# EAGLE library part XC2S200E (library Traficon)
Xilinx FPGA Spartan II XC2S200 PQFP 208 Created by Colin O'Flynn [coflynn@newae.com] This part has been used extensively in real life, and should be correct!
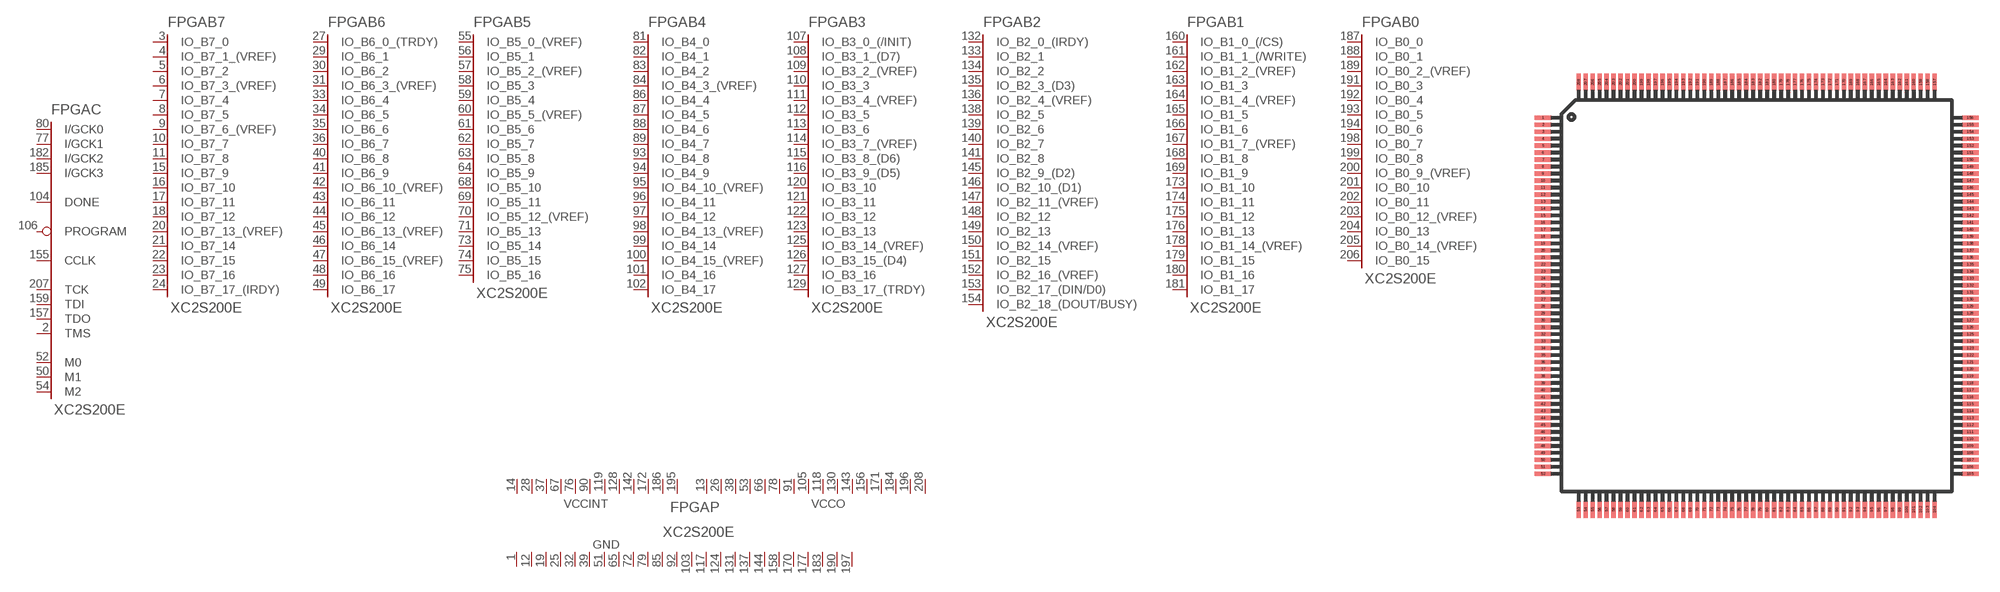
[diagram p144: symbol with the pads of PQFP208; footprint PQFP208]

Designator prefix FPGA; gates P=PWR_XC2S200 B7=XC2S_B7 B6=XC2S_B6 B4=XC2S_B4 B3=XC2S_B3 B2=XC2S_B2 B1=XC2S_B1 B0=XC2S_B0 B5=XC2S_B5 C=XC2S_C

## XC2S200E-PQ208  [PQFP208]
1  P:GND  pwr
2  C:TMS
3  B7:IO_B7_0
4  B7:IO_B7_1_(VREF)
5  B7:IO_B7_2
6  B7:IO_B7_3_(VREF)
7  B7:IO_B7_4
8  B7:IO_B7_5
9  B7:IO_B7_6_(VREF)
10  B7:IO_B7_7
11  B7:IO_B7_8
12  P:GND  pwr
13  P:VCCO  pwr
14  P:VCCINT  pwr
15  B7:IO_B7_9
16  B7:IO_B7_10
17  B7:IO_B7_11
18  B7:IO_B7_12
19  P:GND  pwr
20  B7:IO_B7_13_(VREF)
21  B7:IO_B7_14
22  B7:IO_B7_15
23  B7:IO_B7_16
24  B7:IO_B7_17_(IRDY)
25  P:GND  pwr
26  P:VCCO  pwr
27  B6:IO_B6_0_(TRDY)
28  P:VCCINT  pwr
29  B6:IO_B6_1
30  B6:IO_B6_2
31  B6:IO_B6_3_(VREF)
32  P:GND  pwr
33  B6:IO_B6_4
34  B6:IO_B6_5
35  B6:IO_B6_6
36  B6:IO_B6_7
37  P:VCCINT  pwr
38  P:VCCO  pwr
39  P:GND  pwr
40  B6:IO_B6_8
41  B6:IO_B6_9
42  B6:IO_B6_10_(VREF)
43  B6:IO_B6_11
44  B6:IO_B6_12
45  B6:IO_B6_13_(VREF)
46  B6:IO_B6_14
47  B6:IO_B6_15_(VREF)
48  B6:IO_B6_16
49  B6:IO_B6_17
50  C:M1  in
51  P:GND  pwr
52  C:M0  in
53  P:VCCO  pwr
54  C:M2  in
55  B5:IO_B5_0_(VREF)
56  B5:IO_B5_1
57  B5:IO_B5_2_(VREF)
58  B5:IO_B5_3
59  B5:IO_B5_4
60  B5:IO_B5_5_(VREF)
61  B5:IO_B5_6
62  B5:IO_B5_7
63  B5:IO_B5_8
64  B5:IO_B5_9
65  P:GND  pwr
66  P:VCCO  pwr
67  P:VCCINT  pwr
68  B5:IO_B5_10
69  B5:IO_B5_11
70  B5:IO_B5_12_(VREF)
71  B5:IO_B5_13
72  P:GND  pwr
73  B5:IO_B5_14
74  B5:IO_B5_15
75  B5:IO_B5_16
76  P:VCCINT  pwr
77  C:I/GCK1
78  P:VCCO  pwr
79  P:GND  pwr
80  C:I/GCK0
81  B4:IO_B4_0
82  B4:IO_B4_1
83  B4:IO_B4_2
84  B4:IO_B4_3_(VREF)
85  P:GND  pwr
86  B4:IO_B4_4
87  B4:IO_B4_5
88  B4:IO_B4_6
89  B4:IO_B4_7
90  P:VCCINT  pwr
91  P:VCCO  pwr
92  P:GND  pwr
93  B4:IO_B4_8
94  B4:IO_B4_9
95  B4:IO_B4_10_(VREF)
96  B4:IO_B4_11
97  B4:IO_B4_12
98  B4:IO_B4_13_(VREF)
99  B4:IO_B4_14
100  B4:IO_B4_15_(VREF)
101  B4:IO_B4_16
102  B4:IO_B4_17
103  P:GND  pwr
104  C:DONE
105  P:VCCO  pwr
106  C:PROGRAM
107  B3:IO_B3_0_(/INIT)
108  B3:IO_B3_1_(D7)
109  B3:IO_B3_2_(VREF)
110  B3:IO_B3_3
111  B3:IO_B3_4_(VREF)
112  B3:IO_B3_5
113  B3:IO_B3_6
114  B3:IO_B3_7_(VREF)
115  B3:IO_B3_8_(D6)
116  B3:IO_B3_9_(D5)
117  P:GND  pwr
118  P:VCCO  pwr
119  P:VCCINT  pwr
120  B3:IO_B3_10
121  B3:IO_B3_11
122  B3:IO_B3_12
123  B3:IO_B3_13
124  P:GND  pwr
125  B3:IO_B3_14_(VREF)
126  B3:IO_B3_15_(D4)
127  B3:IO_B3_16
128  P:VCCINT  pwr
129  B3:IO_B3_17_(TRDY)
130  P:VCCO  pwr
131  P:GND  pwr
132  B2:IO_B2_0_(IRDY)
133  B2:IO_B2_1
134  B2:IO_B2_2
135  B2:IO_B2_3_(D3)
136  B2:IO_B2_4_(VREF)
137  P:GND  pwr
138  B2:IO_B2_5
139  B2:IO_B2_6
140  B2:IO_B2_7
141  B2:IO_B2_8
142  P:VCCINT  pwr
143  P:VCCO  pwr
144  P:GND  pwr
145  B2:IO_B2_9_(D2)
146  B2:IO_B2_10_(D1)
147  B2:IO_B2_11_(VREF)
148  B2:IO_B2_12
149  B2:IO_B2_13
150  B2:IO_B2_14_(VREF)
151  B2:IO_B2_15
152  B2:IO_B2_16_(VREF)
153  B2:IO_B2_17_(DIN/D0)
154  B2:IO_B2_18_(DOUT/BUSY)
155  C:CCLK
156  P:VCCO  pwr
157  C:TDO
158  P:GND  pwr
159  C:TDI
160  B1:IO_B1_0_(/CS)
161  B1:IO_B1_1_(/WRITE)
162  B1:IO_B1_2_(VREF)
163  B1:IO_B1_3
164  B1:IO_B1_4_(VREF)
165  B1:IO_B1_5
166  B1:IO_B1_6
167  B1:IO_B1_7_(VREF)
168  B1:IO_B1_8
169  B1:IO_B1_9
170  P:GND  pwr
171  P:VCCO  pwr
172  P:VCCINT  pwr
173  B1:IO_B1_10
174  B1:IO_B1_11
175  B1:IO_B1_12
176  B1:IO_B1_13
177  P:GND  pwr
178  B1:IO_B1_14_(VREF)
179  B1:IO_B1_15
180  B1:IO_B1_16
181  B1:IO_B1_17
182  C:I/GCK2
183  P:GND  pwr
184  P:VCCO  pwr
185  C:I/GCK3
186  P:VCCINT  pwr
187  B0:IO_B0_0
188  B0:IO_B0_1
189  B0:IO_B0_2_(VREF)
190  P:GND  pwr
191  B0:IO_B0_3
192  B0:IO_B0_4
193  B0:IO_B0_5
194  B0:IO_B0_6
195  P:VCCINT  pwr
196  P:VCCO  pwr
197  P:GND  pwr
198  B0:IO_B0_7
199  B0:IO_B0_8
200  B0:IO_B0_9_(VREF)
201  B0:IO_B0_10
202  B0:IO_B0_11
203  B0:IO_B0_12_(VREF)
204  B0:IO_B0_13
205  B0:IO_B0_14_(VREF)
206  B0:IO_B0_15
207  C:TCK
208  P:VCCO  pwr

## Footprint PQFP208 (pad centres in mm)
PLASTIC QUAD FLAT PACK
smd 1.2 x 0.32: 1 -15.3,12.75; 2 -15.3,12.25; 3 -15.3,11.75; 4 -15.3,11.25; 5 -15.3,10.75; 6 -15.3,10.25; 7 -15.3,9.75; 8 -15.3,9.25; 9 -15.3,8.75; 10 -15.3,8.25; 11 -15.3,7.75; 12 -15.3,7.25; 13 -15.3,6.75; 14 -15.3,6.25; 15 -15.3,5.75; 16 -15.3,5.25; 17 -15.3,4.75; 18 -15.3,4.25; 19 -15.3,3.75; 20 -15.3,3.25; 21 -15.3,2.75; 22 -15.3,2.25; 23 -15.3,1.75; 24 -15.3,1.25; 25 -15.3,0.75; 26 -15.3,0.25; 27 -15.3,-0.25; 28 -15.3,-0.75; 29 -15.3,-1.25; 30 -15.3,-1.75; 31 -15.3,-2.25; 32 -15.3,-2.75; 33 -15.3,-3.25; 34 -15.3,-3.75; 35 -15.3,-4.25; 36 -15.3,-4.75; 37 -15.3,-5.25; 38 -15.3,-5.75; 39 -15.3,-6.25; 40 -15.3,-6.75; 41 -15.3,-7.25; 42 -15.3,-7.75; 43 -15.3,-8.25; 44 -15.3,-8.75; 45 -15.3,-9.25; 46 -15.3,-9.75; 47 -15.3,-10.25; 48 -15.3,-10.75; 49 -15.3,-11.25; 50 -15.3,-11.75; 51 -15.3,-12.25; 52 -15.3,-12.75; 105 15.3,-12.75; 106 15.3,-12.25; 107 15.3,-11.75; 108 15.3,-11.25; 109 15.3,-10.75; 110 15.3,-10.25; 111 15.3,-9.75; 112 15.3,-9.25; 113 15.3,-8.75; 114 15.3,-8.25; 115 15.3,-7.75; 116 15.3,-7.25; 117 15.3,-6.75; 118 15.3,-6.25; 119 15.3,-5.75; 120 15.3,-5.25; 121 15.3,-4.75; 122 15.3,-4.25; 123 15.3,-3.75; 124 15.3,-3.25; 125 15.3,-2.75; 126 15.3,-2.25; 127 15.3,-1.75; 128 15.3,-1.25; 129 15.3,-0.75; 130 15.3,-0.25; 131 15.3,0.25; 132 15.3,0.75; 133 15.3,1.25; 134 15.3,1.75; 135 15.3,2.25; 136 15.3,2.75; 137 15.3,3.25; 138 15.3,3.75; 139 15.3,4.25; 140 15.3,4.75; 141 15.3,5.25; 142 15.3,5.75; 143 15.3,6.25; 144 15.3,6.75; 145 15.3,7.25; 146 15.3,7.75; 147 15.3,8.25; 148 15.3,8.75; 149 15.3,9.25; 150 15.3,9.75; 151 15.3,10.25; 152 15.3,10.75; 153 15.3,11.25; 154 15.3,11.75; 155 15.3,12.25; 156 15.3,12.75
smd 0.32 x 1.2: 53 -12.75,-15.3; 54 -12.25,-15.3; 55 -11.75,-15.3; 56 -11.25,-15.3; 57 -10.75,-15.3; 58 -10.25,-15.3; 59 -9.75,-15.3; 60 -9.25,-15.3; 61 -8.75,-15.3; 62 -8.25,-15.3; 63 -7.75,-15.3; 64 -7.25,-15.3; 65 -6.75,-15.3; 66 -6.25,-15.3; 67 -5.75,-15.3; 68 -5.25,-15.3; 69 -4.75,-15.3; 70 -4.25,-15.3; 71 -3.75,-15.3; 72 -3.25,-15.3; 73 -2.75,-15.3; 74 -2.25,-15.3; 75 -1.75,-15.3; 76 -1.25,-15.3; 77 -0.75,-15.3; 78 -0.25,-15.3; 79 0.25,-15.3; 80 0.75,-15.3; 81 1.25,-15.3; 82 1.75,-15.3; 83 2.25,-15.3; 84 2.75,-15.3; 85 3.25,-15.3; 86 3.75,-15.3; 87 4.25,-15.3; 88 4.75,-15.3; 89 5.25,-15.3; 90 5.75,-15.3; 91 6.25,-15.3; 92 6.75,-15.3; 93 7.25,-15.3; 94 7.75,-15.3; 95 8.25,-15.3; 96 8.75,-15.3; 97 9.25,-15.3; 98 9.75,-15.3; 99 10.25,-15.3; 100 10.75,-15.3; 101 11.25,-15.3; 102 11.75,-15.3; 103 12.25,-15.3; 104 12.75,-15.3; 157 12.75,15.3; 158 12.25,15.3; 159 11.75,15.3; 160 11.25,15.3; 161 10.75,15.3; 162 10.25,15.3; 163 9.75,15.3; 164 9.25,15.3; 165 8.75,15.3; 166 8.25,15.3; 167 7.75,15.3; 168 7.25,15.3; 169 6.75,15.3; 170 6.25,15.3; 171 5.75,15.3; 172 5.25,15.3; 173 4.75,15.3; 174 4.25,15.3; 175 3.75,15.3; 176 3.25,15.3; 177 2.75,15.3; 178 2.25,15.3; 179 1.75,15.3; 180 1.25,15.3; 181 0.75,15.3; 182 0.25,15.3; 183 -0.25,15.3; 184 -0.75,15.3; 185 -1.25,15.3; 186 -1.75,15.3; 187 -2.25,15.3; 188 -2.75,15.3; 189 -3.25,15.3; 190 -3.75,15.3; 191 -4.25,15.3; 192 -4.75,15.3; 193 -5.25,15.3; 194 -5.75,15.3; 195 -6.25,15.3; 196 -6.75,15.3; 197 -7.25,15.3; 198 -7.75,15.3; 199 -8.25,15.3; 200 -8.75,15.3; 201 -9.25,15.3; 202 -9.75,15.3; 203 -10.25,15.3; 204 -10.75,15.3; 205 -11.25,15.3; 206 -11.75,15.3; 207 -12.25,15.3; 208 -12.75,15.3